# Altium schematic symbol library Library.SchLib: 692 symbols (part 6 of 11)
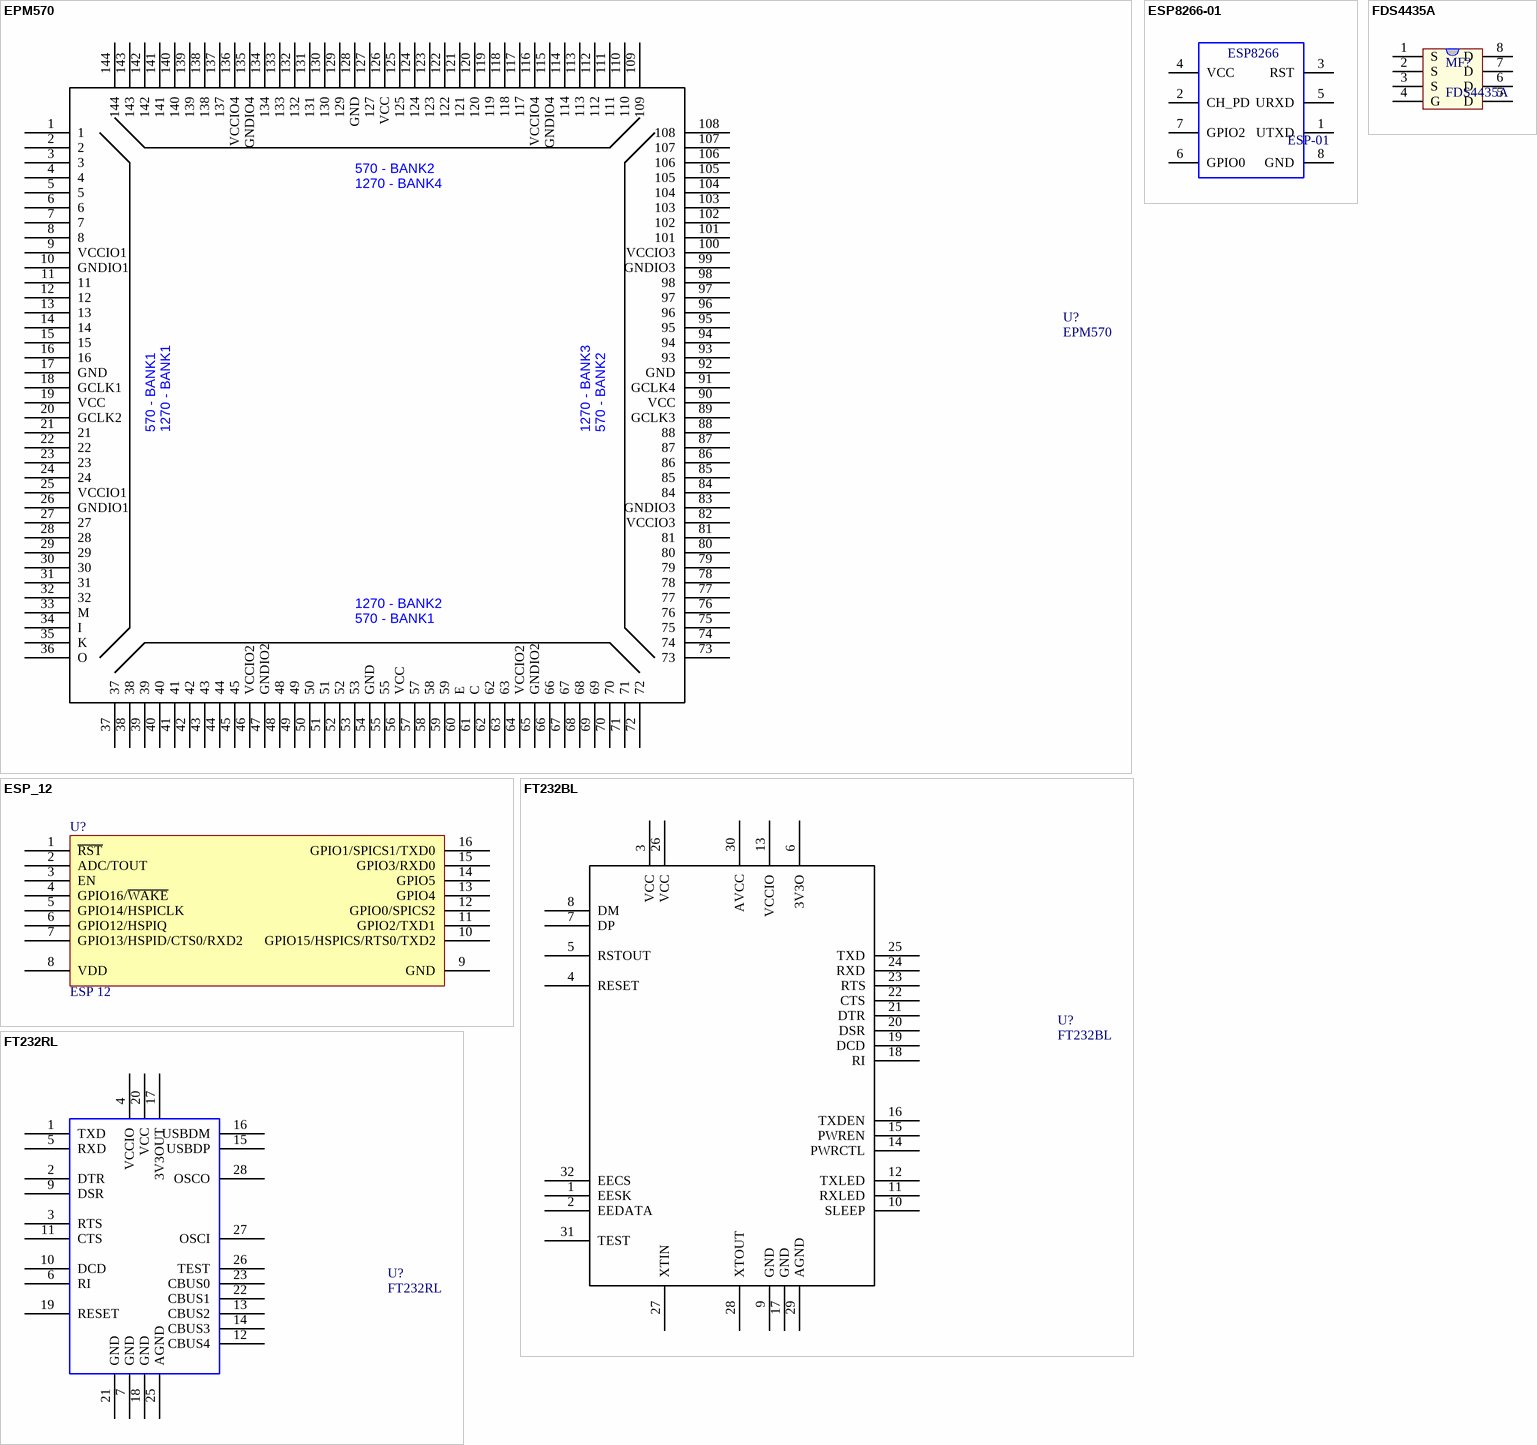
[diagram p51: symbols EPM570 to FT232RL]

## FT232BL
designator U?
USB TO UART INTERFACE; Manufacturer Part Number: FT232BL R; Manufacturer: FTDI, Future Technology Devices International Ltd; Voltage: 4.35 V ~ 5.25 V; FIFO's: 256 Byte; Number of Channels: 8; Supplier 1: Digi-Key; Supplier Part Number 1: 768-1009-1-ND; Supplier: Digi-Key; Features: Serial Interface; Packaging: Cut Tape (CT); Package / Case: 32-LQFP; Supplier Part Number: 768-1009-1-ND; Category: Integrated Circuits (ICs); RoHS: RoHS Compliant
footprint TQFP32 (Thin QFP, 32-Leads, Body 9x9mm, Pitch 0.8mm, IPC Low Density)
pins: 1 EESK, 2 EEDATA, 3 VCC, 4 RESET, 5 RSTOUT, 6 3V3O, 7 DP, 8 DM, 9 GND, 10 SLEEP, 11 RXLED, 12 TXLED, 13 VCCIO, 14 PWRCTL, 15 PWREN, 16 TXDEN, 17 GND, 18 RI, 19 DCD, 20 DSR, 21 DTR, 22 CTS, 23 RTS, 24 RXD, 25 TXD, 26 VCC, 27 XTIN, 28 XTOUT, 29 AGND, 30 AVCC, 31 TEST, 32 EECS

## FT232RL
designator U?
USB TO UART INTERFACE; Manufacturer: FTDI, Future Technology Devices International Ltd; Manufacturer Part Number: FT232RL R; Number of Channels: 8; Voltage: 3.3 V ~ 5.25 V; FIFO's: 256 Byte; Supplier 1: Digi-Key; Supplier Part Number 1: 768-1007-2-ND; RoHS: RoHS Compliant; Features: Serial Interface; Package / Case: 28-SSOP; Supplier: Digi-Key; Packaging: Tape & Reel (TR); Supplier Part Number: 768-1007-2-ND; Category: Integrated Circuits (ICs)
footprint TSSOP28
pins: 1 TXD, 2 DTR, 3 RTS, 4 VCCIO, 5 RXD, 6 RI, 7 GND, 9 DSR, 10 DCD, 11 CTS, 12 CBUS4, 13 CBUS2, 14 CBUS3, 15 USBDP, 16 USBDM, 17 3V3OUT, 18 GND, 19 RESET, 20 VCC, 21 GND, 22 CBUS1, 23 CBUS0, 25 AGND, 26 TEST, 27 OSCI, 28 OSCO

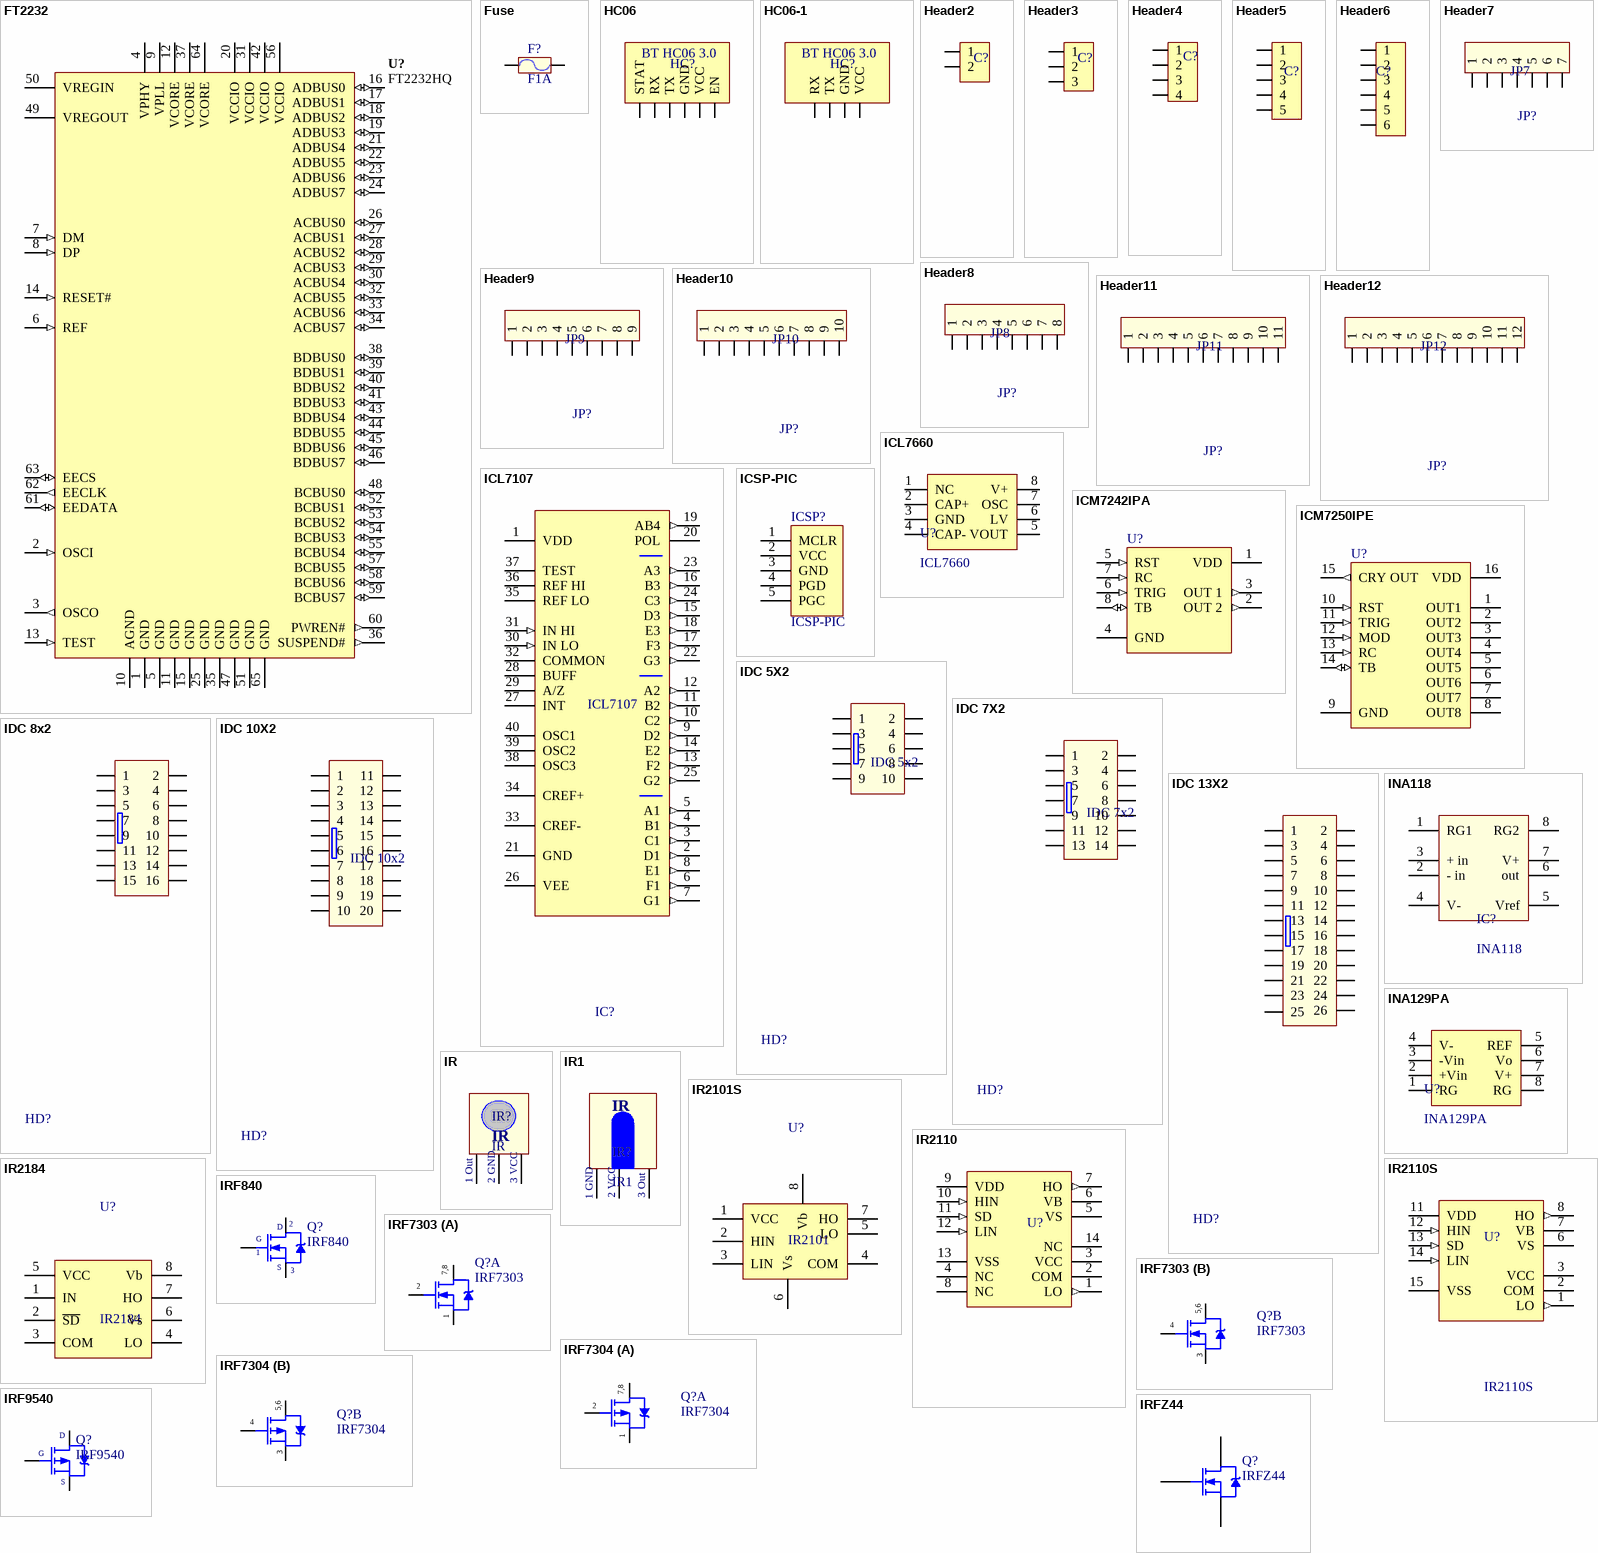
[diagram p28: symbols FT2232 to IRFZ44]

## FT2232
designator U?, comment FT2232HQ
Dual High Speed USB To Multipurpose UART/FIFO IC, QFN-64, Tray; DatasheetVersion: ver 2.10, Nov-2010; ComponentLink1Description: Manufacturer URL; PackageVersion: 2010; ComponentLink1URL: http://www.ftdichip.com/; PackageReference: QFN64_2; PackageDescription: 64-Pin Quad Flat No-Lead, 9 x 9 mm Body, 0.5 mm Pitch, 4.35 x 4.35 mm Exposed Pad; RevisionNote: URLs added.; ComponentLink2URL: http://www.ftdichip.com/Support/Documents/DataSheets/ICs/DS_FT2232H.pdf; ComponentLink2Description: Datasheet
footprint QFN64M (QFN, 64-Leads, Body 9x9mm, Pitch 0.5mm, IPC High Density)
pins: 1 GND (power), 2 OSCI (in), 3 OSCO (out), 4 VPHY (power), 5 GND (power), 6 REF (in), 7 DM (in), 8 DP (in), 9 VPLL (power), 10 AGND (power), 11 GND (power), 12 VCORE (power), 13 TEST (in), 14 RESET# (in), 15 GND (power), 16 ADBUS0 (io), 17 ADBUS1 (io), 18 ADBUS2 (io), 19 ADBUS3 (io), 20 VCCIO (power), 21 ADBUS4 (io), 22 ADBUS5 (io), 23 ADBUS6 (io), 24 ADBUS7 (io), 25 GND (power), 26 ACBUS0 (io), 27 ACBUS1 (io), 28 ACBUS2 (io), 29 ACBUS3 (io), 30 ACBUS4 (io), 31 VCCIO (power), 32 ACBUS5 (io), 33 ACBUS6 (io), 34 ACBUS7 (io), 35 GND (power), 36 SUSPEND# (out), 37 VCORE (power), 38 BDBUS0 (io), 39 BDBUS1 (io), 40 BDBUS2 (io), 41 BDBUS3 (io), 42 VCCIO (power), 43 BDBUS4 (io), 44 BDBUS5 (io), 45 BDBUS6 (io), 46 BDBUS7 (io), 47 GND (power), 48 BCBUS0 (io), 49 VREGOUT (power), 50 VREGIN (power), 51 GND (power), 52 BCBUS1 (io), 53 BCBUS2 (io), 54 BCBUS3 (io), 55 BCBUS4 (io), 56 VCCIO (power), 57 BCBUS5 (io), 58 BCBUS6 (io), 59 BCBUS7 (io), 60 PWREN# (out), 61 EEDATA (io), 62 EECLK (out), 63 EECS (io), 64 VCORE (power), 65 GND (power)

## Fuse
designator F?, comment F1A
Fuse; Designed by: VanDungEvn; Value: Fuse
footprint Fuse4 (FUSEHOLDER BLOCKS - PCB - CLIP COVER - THT - WR-FSH)
footprint Fuse1
footprint FUSE2 (De Fuse)
footprint Fuse5 (PCB - Clip Cover - THR)
footprint Fuse3 (FUSEHOLDER BLOCKS - PCB - CLIP COVER - THT - WR-FSH)
footprint Fuse6 (FUSEHOLDER BLOCKS - PCB - CLIP COVER - THT - WR-FSH)
footprint Fuse7 (FUSEHOLDER BLOCKS - PCB - CLIP COVER - THT - WR-FSH)
footprint Fuse8 (WR-FSH Shocksafe Fuseholder-PCB-Turn and Lock Cover-THT)
footprint Fuse9 (WR-FSH Shocksafe Fuseholder-PCB-Turn and Lock Cover-THT)
pins: 1, 2

## HC06
designator HC?
Manufacturer: W¨¹rth Elektronik eiSos GmbH; partNo: 613004143121; ComponentLink1 Description: Manufacturer; ComponentLink2 Description: Datasheet; NoPins: 04; Created Date: 29 March 2013; ComponentLink1URL: http://www.we-online.com; ComponentLink2URL: http://katalog.we-online.de/em/datasheet/6130xx143121.pdf; Created by: Karrer Zheng
footprint HC06
footprint JP6-C1T (6 row, straight, gold plating)
pins: 1 STAT, 2 RX, 3 TX, 4 GND, 5 VCC, 6 EN
text: BT HC06 3.0

## HC06-1
designator HC?
Manufacturer: W¨¹rth Elektronik eiSos GmbH; partNo: 613004143121; ComponentLink1 Description: Manufacturer; ComponentLink2 Description: Datasheet; NoPins: 04; Created Date: 29 March 2013; ComponentLink1URL: http://www.we-online.com; ComponentLink2URL: http://katalog.we-online.de/em/datasheet/6130xx143121.pdf; Created by: Karrer Zheng
footprint HC06-1
footprint JP4-C1T (4 row, straight, gold plating)
pins: 1 RX, 2 TX, 3 GND, 4 VCC
text: BT HC06 3.0

## Header2
designator C?
Header IDC, 2 x 1 Pin Vertical 2.54mm Pitch (Non-Boxed, Male); Manufacturer: W¨¹rth Elektronik eiSos GmbH; partNo: 613002143121; ComponentLink1 Description: Manufacturer; ComponentLink2 Description: Datasheet; NoPins: 02; Created Date: 29 March 2013; ComponentLink1URL: http://www.we-online.com; ComponentLink2URL: http://katalog.we-online.de/em/datasheet/6130xx143121.pdf; Created by: Karrer Zheng
footprint HDR2 (Connector; Header; 2 Position)
footprint Header2 (CON2)
pins: 1, 2

## Header3
designator C?
Header IDC, 3 x 1 Pin Vertical 2.54mm Pitch (Non-Boxed, Male); Manufacturer: W¨¹rth Elektronik eiSos GmbH; partNo: 613002143121; ComponentLink1 Description: Manufacturer; ComponentLink2 Description: Datasheet; NoPins: 02; Created Date: 29 March 2013; ComponentLink1URL: http://www.we-online.com; ComponentLink2URL: http://katalog.we-online.de/em/datasheet/6130xx143121.pdf; Created by: Karrer Zheng
footprint HDR3 (Connector; Header; 3 Position)
footprint Header3 (CON 3)
pins: 1, 2, 3

## Header4
designator C?
Header IDC, 4 x 1 Pin Vertical 2.54mm Pitch (Non-Boxed, Male); Manufacturer: W¨¹rth Elektronik eiSos GmbH; partNo: 613002143121; ComponentLink1 Description: Manufacturer; ComponentLink2 Description: Datasheet; NoPins: 02; Created Date: 29 March 2013; ComponentLink1URL: http://www.we-online.com; ComponentLink2URL: http://katalog.we-online.de/em/datasheet/6130xx143121.pdf; Created by: Karrer Zheng
footprint HDR4 (Connector; Header; 4 Position)
footprint Header4 (CON4)
pins: 1, 2, 3, 4

## Header5
designator C?
Header IDC, 5 x 1 Pin Vertical 2.54mm Pitch (Non-Boxed, Male); Manufacturer: W¨¹rth Elektronik eiSos GmbH; partNo: 613002143121; ComponentLink1 Description: Manufacturer; ComponentLink2 Description: Datasheet; NoPins: 02; Created Date: 29 March 2013; ComponentLink1URL: http://www.we-online.com; ComponentLink2URL: http://katalog.we-online.de/em/datasheet/6130xx143121.pdf; Created by: Karrer Zheng
footprint HDR5 (Connector; Header; 5 Position)
footprint Header5 (CON5)
pins: 1, 2, 3, 4, 5

## Header6
designator C?
Header IDC, 6 x 1 Pin Vertical 2.54mm Pitch (Non-Boxed, Male); Manufacturer: W¨¹rth Elektronik eiSos GmbH; partNo: 613002143121; ComponentLink1 Description: Manufacturer; ComponentLink2 Description: Datasheet; NoPins: 02; Created Date: 29 March 2013; ComponentLink1URL: http://www.we-online.com; ComponentLink2URL: http://katalog.we-online.de/em/datasheet/6130xx143121.pdf; Created by: Karrer Zheng
footprint HDR6 (Connector; Header; 6 Position)
footprint Header6 (CON6)
pins: 1, 2, 3, 4, 5, 6

## Header7
designator JP?, comment JP7
Connector 7; Value: Connector 7
footprint Header7 (CON7)
pins: 1, 2, 3, 4, 5, 6, 7

## Header8
designator JP?, comment JP8
Connector 8; Value: Connector 8
footprint Header8 (CON8)
pins: 1, 2, 3, 4, 5, 6, 7, 8

## Header9
designator JP?, comment JP9
Connector 9; Value: Connector 9
footprint Header9 (CON9)
pins: 1, 2, 3, 4, 5, 6, 7, 8, 9

## Header10
designator JP?, comment JP10
Connector 10; Value: Connector 10
footprint Header10 (CON10)
pins: 1, 2, 3, 4, 5, 6, 7, 8, 9, 10

## Header11
designator JP?, comment JP11
Connector 11; Value: Connector 11
footprint Header11 (CON11)
pins: 1, 2, 3, 4, 5, 6, 7, 8, 9, 10, 11

## Header12
designator JP?, comment JP12
Connector 12; Value: Connector 12
footprint Header12 (CON12)
pins: 1, 2, 3, 4, 5, 6, 7, 8, 9, 10, 11, 12

## ICL7107
designator IC?
Dipslay voltage 0 - 1999; Value: ICL7107
footprint DIP40/W0.6 (40 PIN, W 600mil, Pin to pin 100mil)
pins: 1 VDD (power), 2 D1 (out), 3 C1 (out), 4 B1 (out), 5 A1 (out), 6 F1 (out), 7 G1 (out), 8 E1 (out), 9 D2 (out), 10 C2 (out), 11 B2 (out), 12 A2 (out), 13 F2 (out), 14 E2 (out), 15 D3 (out), 16 B3 (out), 17 F3 (out), 18 E3 (out), 19 AB4 (out), 20 POL, 21 GND (power), 22 G3 (out), 23 A3 (out), 24 C3 (out), 25 G2 (out), 26 VEE (power), 27 INT, 28 BUFF, 29 A/Z, 30 IN LO (in), 31 IN HI (in), 32 COMMON, 33 CREF-, 34 CREF+, 35 REF LO, 36 REF HI, 37 TEST, 38 OSC3, 39 OSC2, 40 OSC1

## ICL7660
designator U?
CMOS Voltage Converters; Creator: Nguyen Ba Bien
footprint DIP8
footprint SO8 (SOIC, 8-Leads, Body 4.9x3.9mm, Pitch 1.27mm, IPC High Density)
pins: 1 NC, 2 CAP+, 3 GND, 4 CAP-, 5 VOUT, 6 LV, 7 OSC, 8 V+

## ICM7242IPA
designator U?
Fixed and Programmable Timer/ Counter; Published: 16-Jan-2001; LatestRevisionDate: 29-May-2009; LatestRevisionNote: Component Body Added.; PackageVersion: RevB, 21-0043; PackageReference: PA8; Publisher: Altium Limited; PackageDescription: DIP, 8-Pin, Row Spacing 7.62 mm, Pitch 2.54 mm; Code_JEDEC: MS-001-AB; ComponentLink1Description: Manufacturer Link; ComponentLink1URL: http://www.maxim-ic.com/; ComponentLink2Description: Datasheet; ComponentLink2URL: http://pdfserv.maxim-ic.com/en/ds/ICM7240-ICM7260.pdf
footprint DIP8
pins: 1 VDD (power), 2 OUT 2 (out), 3 OUT 1 (out), 4 GND (power), 5 RST (in), 6 TRIG (in), 7 RC (in), 8 TB (io)

## ICM7250IPE
designator U?
Fixed and Programmable Timer/ Counter; Published: 16-Jan-2001; LatestRevisionDate: 29-May-2009; LatestRevisionNote: Component Body Added.; PackageVersion: 1997; PackageReference: PE16A; Publisher: Altium Limited; PackageDescription: DIP, 16-Pin, Row Spacing 7.62 mm, Pitch 2.54 mm; Code_JEDEC: MS-001-BB; ComponentLink1Description: Manufacturer Link; ComponentLink1URL: http://www.maxim-ic.com/; ComponentLink2Description: Datasheet; ComponentLink2URL: http://pdfserv.maxim-ic.com/en/ds/ICM7240-ICM7260.pdf
footprint DIP16
pins: 1 OUT1 (oc), 2 OUT2 (oc), 3 OUT3 (oc), 4 OUT4 (oc), 5 OUT5 (oc), 6 OUT6 (oc), 7 OUT7 (oc), 8 OUT8 (oc), 9 GND (power), 10 RST (in), 11 TRIG (in), 12 MOD (in), 13 RC (in), 14 TB (io), 15 CRY OUT (out), 16 VDD (power)

## ICSP-PIC
designator ICSP?
Header, 5-Pin; LatestRevisionDate: 17-Jul-2002; LatestRevisionNote: Re-released for DXP Platform.; Publisher: Altium Limited
footprint JP5-D1T (5 pins, 1 row, straight, gold plating)
pins: 1 MCLR, 2 VCC, 3 GND, 4 PGD, 5 PGC

## IDC 5X2
designator HD?, comment IDC 5x2
Value: Header 5x2
footprint IDC10-BH
footprint IDC10
footprint IDC10-S
pins: 1, 2, 3, 4, 5, 6, 7, 8, 9, 10

## IDC 7X2
designator HD?, comment IDC 7x2
Value: Header 5x2
footprint IDC14
pins: 1, 2, 3, 4, 5, 6, 7, 8, 9, 10, 11, 12, 13, 14

## IDC 8x2
designator HD?, comment IDC 8X2  (value not drawn)
Value: Header 5x2
footprint IDC16
pins: 1, 2, 3, 4, 5, 6, 7, 8, 9, 10, 11, 12, 13, 14, 15, 16

## IDC 10X2
designator HD?, comment IDC 10x2
Value: Header 5x2
footprint IDC20 (Header 10x2,20 pin, connecter)
footprint IDC20-S (IDC20 EDGE SOLDERED)
footprint IDC20-B
pins: 1, 2, 3, 4, 5, 6, 7, 8, 9, 10, 11, 12, 13, 14, 15, 16, 17, 18, 19, 20

## IDC 13X2
designator HD?
IDC 13x2; Value: Header 5x2
footprint IDC26-B
footprint IDC26-S (IDC26 EDGE SOLDERED)
pins: 1, 2, 3, 4, 5, 6, 7, 8, 9, 10, 11, 12, 13, 14, 15, 16, 17, 18, 19, 20, 21, 22, 23, 24, 25, 26

## INA118
designator IC?
Precision, Low Power  INSTRUMENTATION AMPLIFIER; Designed by: VanDungEvn; Value: INA118
footprint DIP8
footprint SO8
pins: 1 RG1, 2 - in, 3 + in, 4 V-, 5 Vref, 6 out, 7 V+, 8 RG2

## INA129PA
designator U?
footprint DIP8
footprint SO8 (SOIC, 8-Leads, Body 4.9x3.9mm, Pitch 1.27mm, IPC High Density)
pins: 1 RG, 2 +Vin, 3 -Vin, 4 V-, 5 REF, 6 Vo, 7 V+, 8 RG

## IR
designator IR?
Receiver Infraed IC
footprint JP3-C1T (3 row, straight, gold plating)
footprint IR (Receiver Infared IC)
pins: 1 Out, 2 GND, 3 VCC
text: 1 Out; 2 GND; 3 VCC

## IR1
designator IR?
Receiver Infraed IC
footprint IR2 (Receiver Infared IC)
pins: 1 Out, 2 GND, 3 VCC
text: IR; 1 GND; 2 VCC; 3 Out

## IR2101S
designator U?, comment IR2101
Half-Bridge Driver
footprint DIP8
footprint SO8 (SOIC, 8-Leads, Body 4.9x3.9mm, Pitch 1.27mm, IPC High Density)
pins: 1 VCC, 2 HIN, 3 LIN, 4 COM, 5 LO, 6 Vs, 7 HO, 8 Vb

## IR2110
designator U?
High and Low Side Driver; Note: Pins 4, 8 and 14 are not connected; Published: 8-Jun-2000; LatestRevisionDate: 04-Mar-2005; LatestRevisionNote: Stylized 3D Model Added.; DatasheetVersion: PD60147J; PackageReference: PDIP14; Publisher: Altium Limited; PackageDescription: DIP; 14 Leads; Row Spacing 7.62 mm; Pitch 2.54 mm; ComponentLink1Description: Manufacturer Link; ComponentLink1URL: http://www.irf.com/; ComponentLink2Description: Datasheet; ComponentLink2URL: http://www.irf.com/product-info/datasheets/data/ir2110.pdf
footprint DIP14
footprint DIP14_SOCKET
pins: 1 LO (out), 2 COM (power), 3 VCC (power), 4 NC, 5 VS (power), 6 VB (power), 7 HO (out), 8 NC, 9 VDD (power), 10 HIN (in), 11 SD (in), 12 LIN (in), 13 VSS (power), 14 NC

## IR2110S
designator U?
High and Low Side Driver; Note: Pins 4, 8 and 14 are not connected; Published: 8-Jun-2000; LatestRevisionDate: 04-Mar-2005; LatestRevisionNote: Stylized 3D Model Added.; DatasheetVersion: PD60147J; PackageReference: PDIP14; Publisher: Altium Limited; PackageDescription: DIP; 14 Leads; Row Spacing 7.62 mm; Pitch 2.54 mm; ComponentLink1Description: Manufacturer Link; ComponentLink1URL: http://www.irf.com/; ComponentLink2Description: Datasheet; ComponentLink2URL: http://www.irf.com/product-info/datasheets/data/ir2110.pdf
footprint SO16L (SOIC, 16-Leads, Body 10.30x7.50mm, Pitch 1.27mm, IPC Medium Density)
pins: 1 LO (out), 2 COM (power), 3 VCC (power), 6 VS (power), 7 VB (power), 8 HO (out), 11 VDD (power), 12 HIN (in), 13 SD (in), 14 LIN (in), 15 VSS (power)

## IR2184
designator U?
Half-Bridge Driver
footprint DIP8
footprint SO8 (SOIC, 8-Leads, Body 4.9x3.9mm, Pitch 1.27mm, IPC High Density)
pins: 1 IN, 2 ~{SD}, 3 COM, 4 LO, 5 VCC, 6 Vs, 7 HO, 8 Vb

## IRF840
designator Q?
MOSFET N - CHANNEL 500V - 0.75 - 8A - TO-220; Value: IRF840
footprint TO220H1 (TO-220 - 1-2-3)
footprint TO220-123 (TO-220 - 1-2-3)
footprint TO220NH (TO-220 - 1-2-3)
footprint TO220H3 (TO-220 1-2-3)
footprint TO220H2 (TO-220 - 1-2-3)
pins: 1 G, 2 D, 3 S

## IRF7303
designator Q?
HEXFET Power MOSFET; Published: 8-Jun-2000; LatestRevisionDate: 13-Apr-2006; LatestRevisionNote: IPC-7351 Footprint Added.; DatasheetVersion: Aug-1997; PackageVersion: Feb-2001; PackageReference: SO-8; Publisher: Altium Limited; PackageDescription: 8-Pin Plastic Small Outline Integrated Circuit 1.27 mm Pitch; Code_JEDEC: MS-012-AA; Code_IPC: SOIC127P600-8; ComponentLink1Description: Manufacturer Link; ComponentLink1URL: http://www.irf.com/; ComponentLink2Description: Datasheet; ComponentLink2URL: http://www.irf.com/product-info/datasheets/data/irf7303.pdf
footprint SO8
footprint DIP8
part A pins: 1 S, 2 G, 7 D, 8 D
part B pins: 3 S, 4 G, 5 D, 6 D
part A text: 7,8
part B text: 5,6

## IRF7304
designator Q?
HEXFET Power MOSFET; Published: 8-Jun-2000; LatestRevisionDate: 13-Apr-2006; LatestRevisionNote: IPC-7351 Footprint Added.; DatasheetVersion: Aug-1997; PackageVersion: Feb-2001; PackageReference: SO-8; Publisher: Altium Limited; PackageDescription: 8-Pin Plastic Small Outline Integrated Circuit 1.27 mm Pitch; Code_JEDEC: MS-012-AA; Code_IPC: SOIC127P600-8; ComponentLink1Description: Manufacturer Link; ComponentLink1URL: http://www.irf.com/; ComponentLink2Description: Datasheet; ComponentLink2URL: http://www.irf.com/product-info/datasheets/data/irf7304.pdf
footprint SO8
footprint DIP8
part A pins: 1 S, 2 G, 7 D, 8 D
part B pins: 3 S, 4 G, 5 D, 6 D
part A text: 7,8
part B text: 5,6

## IRF9540
designator Q?
HEXFET P-Channel Power MOSFET; Value: IRF840
footprint TO220H1 (TO-220 - 1-2-3)
footprint TO220-123 (TO-220 - 1-2-3)
footprint TO220NH (TO-220 - 1-2-3)
footprint TO220H3 (TO-220 1-2-3)
footprint TO220H2 (TO-220 - 1-2-3)
pins: 1 G, 2 D, 3 S

## IRFZ44
designator Q?
Value: IRF840
footprint TO220H1 (TO-220 - 1-2-3)
footprint TO220-123 (TO-220 - 1-2-3)
footprint TO220NH (TO-220 - 1-2-3)
footprint TO220H2 (TO-220 - 1-2-3)
footprint TO220H3 (TO-220 1-2-3)
pins: 1 G, 2 D, 3 S

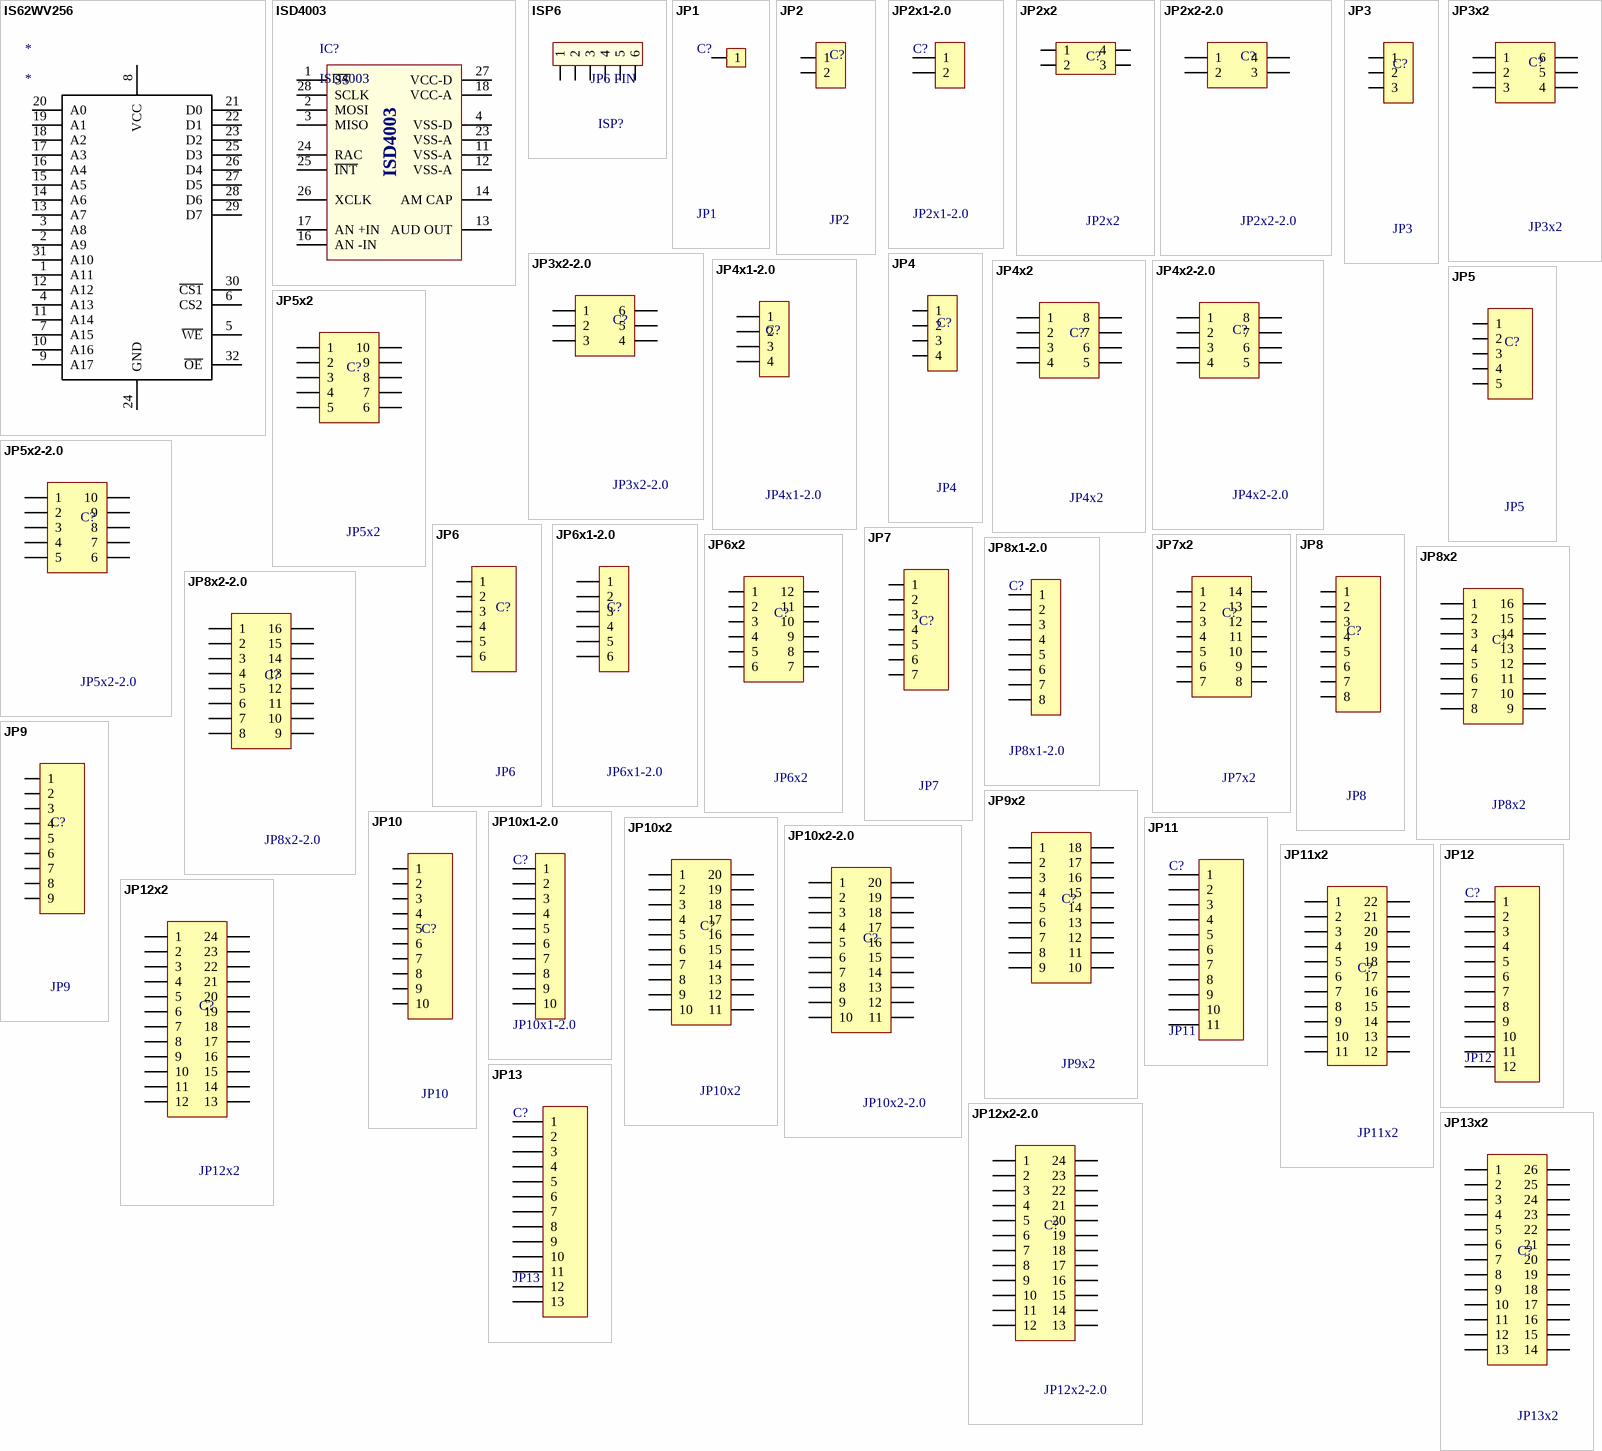
[diagram p29: symbols IS62WV256 to JP13x2]

## IS62WV256
designator *
footprint TSOP32 (TSSOP, 32-Leads, Body 8.1x18.5mm (max), Pitch 0.50mm, IPC Medium Density)
pins: 1 A11, 2 A9, 3 A8, 4 A13, 5 ~{WE}, 6 CS2, 7 A15, 8 VCC, 9 A17, 10 A16, 11 A14, 12 A12, 13 A7, 14 A6, 15 A5, 16 A4, 17 A3, 18 A2, 19 A1, 20 A0, 21 D0, 22 D1, 23 D2, 24 GND, 25 D3, 26 D4, 27 D5, 28 D6, 29 D7, 30 ~{CS1}, 31 A10, 32 ~{OE}

## ISD4003
designator IC?
Single-chip voice Record/Playback solution
footprint DIP28/W0.6 (DIP28/W.600, Pin to pin 100mil)
pins: 1 ~{SS}, 2 MOSI, 3 MISO, 4 VSS-D, 11 VSS-A, 12 VSS-A, 13 AUD OUT, 14 AM CAP, 16 AN -IN, 17 AN +IN, 18 VCC-A, 23 VSS-A, 24 RAC, 25 ~{INT}, 26 XCLK, 27 VCC-D, 28 SCLK

## ISP6
designator ISP?, comment JP6 PIN
ISP6 PIN; Value: JP7
footprint JP6-D1T (6 pins, 1 row, straight, gold plating)
pins: 1, 2, 3, 4, 5, 6

## JP1
designator C?
WR-PHD 2.54 mm Angled Socket Header; Manufacturer: W¨¹rth Elektronik eiSos GmbH; partNo: 613002143121; ComponentLink1 Description: Manufacturer; ComponentLink2 Description: Datasheet; NoPins: 02; Created Date: 29 March 2013; ComponentLink1URL: http://www.we-online.com; ComponentLink2URL: http://katalog.we-online.de/em/datasheet/6130xx143121.pdf; Created by: Karrer Zheng
footprint JP1-D1T (1pins, 1 row, straight, gold plating)
pins: 1

## JP2
designator C?
WR-PHD 2.54 mm Angled Socket Header; Manufacturer: W¨¹rth Elektronik eiSos GmbH; partNo: 613002143121; ComponentLink1 Description: Manufacturer; ComponentLink2 Description: Datasheet; NoPins: 02; Created Date: 29 March 2013; ComponentLink1URL: http://www.we-online.com; ComponentLink2URL: http://katalog.we-online.de/em/datasheet/6130xx143121.pdf; Created by: Karrer Zheng
footprint JP2-C1T (2 row, straight, gold plating)
footprint JP2-CLOSED
footprint JP2-C1C (02p 1 row Right angle)
footprint JP2-D1C (2 pins, 1 row, right angled, gold plating)
footprint JP2-D1T (2 pins, 1 row, straight, gold plating)
pins: 1, 2

## JP2x1-2.0
designator C?
WR-PHD 2.00 mm Socket Header; Manufacturer: W¨¹rth Elektronik eiSos GmbH; partNo: 62000211821; ComponentLink1 Description: Manufacturer; ComponentLink2 Description: Datasheet; NoPins: 02; Created Date: 2 April 2013; ComponentLink1URL: http://www.we-online.com; ComponentLink2URL: http://katalog.we-online.de/em/datasheet/6200xx11821.pdf; Created by: Karrer Zheng
footprint J2-C1T (2p, 1 row, straight, gold plating)
footprint J2-D1T (2 pins, 1 row, straight, gold plating)
pins: 1, 2

## JP2x2
designator C?
WR-PHD 2.54 mm Dual Socket Header; Manufacturer: W¨¹rth Elektronik eiSos GmbH; partNo: 61300421821; ComponentLink1 Description: Manufacturer; ComponentLink2 Description: Datasheet; NoPins: 04; Created Date: 29 March 2013; ComponentLink1URL: http://www.we-online.com; ComponentLink2URL: http://katalog.we-online.de/em/datasheet/6130xx21821.pdf; Created by: Karrer Zheng
footprint JP2-C2C (04p 2 rows Right angle)
footprint JP2-D2T (4 pins, dual pin, straight, gold plating)
footprint JP2-D2C (4 pins, dual row, right angled, gold plating)
footprint JP2-C2T (4 pins, dual row, straight, gold plating)
pins: 1, 2, 3, 4

## JP2x2-2.0
designator C?
WR-PHD 2.00 mm Dual Pin Header; Manufacturer: W¨¹rth Elektronik eiSos GmbH; partNo: 62000421121; ComponentLink1 Description: Manufacturer; ComponentLink2 Description: Datasheet; NoPins: 04; Created Date: 2 April 2013; ComponentLink1URL: http://www.we-online.com; ComponentLink2URL: http://katalog.we-online.de/em/datasheet/6200xx21121.pdf; Created by: Karrer Zheng
footprint J2-C2T (4 pins, dual row, straight, gold plating)
footprint J2-D2T (4 pins, dual row, straight, gold plating)
pins: 1, 2, 3, 4

## JP3
designator C?
WR-PHD 2.54 mm Angled Socket Header; Manufacturer: W¨¹rth Elektronik eiSos GmbH; partNo: 613003143121; ComponentLink1 Description: Manufacturer; ComponentLink2 Description: Datasheet; NoPins: 03; Created Date: 29 March 2013; ComponentLink1URL: http://www.we-online.com; ComponentLink2URL: http://katalog.we-online.de/em/datasheet/6130xx143121.pdf; Created by: Karrer Zheng
footprint JP3-C1T (3 row, straight, gold plating)
footprint JP3-D1C (3 pins, 1 row, right angled, gold plating)
footprint JP3-C1C (03p 1 row Right angle)
footprint JP3-D1T (3 pins, 1 row, straight, gold plating)
footprint JP3-CLOSED
pins: 1, 2, 3

## JP3x2
designator C?
WR-PHD 2.54 mm Dual Socket Header; Manufacturer: W¨¹rth Elektronik eiSos GmbH; partNo: 61300621821; ComponentLink1 Description: Manufacturer; ComponentLink2 Description: Datasheet; NoPins: 06; Created Date: 29 March 2013; ComponentLink1URL: http://www.we-online.com; ComponentLink2URL: http://katalog.we-online.de/em/datasheet/6130xx21821.pdf; Created by: Karrer Zheng
footprint JP3-D2T (6 pins, dual pin, straight, gold plating)
footprint JP3-C2T (6 pins, dual row, straight, gold plating)
footprint JP3-C2C (06p 2 rows Right angle)
footprint JP3-D2C (06 pins, dual row, right angled, gold plating)
pins: 1, 2, 3, 4, 5, 6

## JP3x2-2.0
designator C?
WR-PHD 2.00 mm Dual Pin Header; Manufacturer: W¨¹rth Elektronik eiSos GmbH; partNo: 62000621121; ComponentLink1 Description: Manufacturer; ComponentLink2 Description: Datasheet; NoPins: 06; Created Date: 2 April 2013; ComponentLink1URL: http://www.we-online.com; ComponentLink2URL: http://katalog.we-online.de/em/datasheet/6200xx21121.pdf; Created by: Karrer Zheng
footprint J3-D2T (6 pins, dual row, straight, gold plating)
footprint J3-C2T (6 pins, dual row, straight, gold plating)
pins: 1, 2, 3, 4, 5, 6

## JP4
designator C?
WR-PHD 2.54 mm Angled Socket Header; Manufacturer: W¨¹rth Elektronik eiSos GmbH; partNo: 613004143121; ComponentLink1 Description: Manufacturer; ComponentLink2 Description: Datasheet; NoPins: 04; Created Date: 29 March 2013; ComponentLink1URL: http://www.we-online.com; ComponentLink2URL: http://katalog.we-online.de/em/datasheet/6130xx143121.pdf; Created by: Karrer Zheng
footprint JP4-C1T (4 row, straight, gold plating)
footprint JP4-D1C (4 pins, 1 row, right angled, gold plating)
footprint JP4-C1C (04p 1 row Right angle)
footprint JP4-D1C (4 pins, 1 row, right angled, gold plating)
pins: 1, 2, 3, 4

## JP4x1-2.0
designator C?
WR-PHD 2.00 mm Socket Header; Manufacturer: W¨¹rth Elektronik eiSos GmbH; partNo: 62000411821; ComponentLink1 Description: Manufacturer; ComponentLink2 Description: Datasheet; NoPins: 04; Created Date: 2 April 2013; ComponentLink1URL: http://www.we-online.com; ComponentLink2URL: http://katalog.we-online.de/em/datasheet/6200xx11821.pdf; Created by: Karrer Zheng
footprint J4-C1T (4p, 1 row, straight, gold plating)
footprint J4-D1T (4 pins, 1 row, straight, gold plating)
pins: 1, 2, 3, 4

## JP4x2
designator C?
WR-PHD 2.54 mm Dual Socket Header; Manufacturer: W¨¹rth Elektronik eiSos GmbH; partNo: 61300821821; ComponentLink1 Description: Manufacturer; ComponentLink2 Description: Datasheet; NoPins: 08; Created Date: 29 March 2013; ComponentLink1URL: http://www.we-online.com; ComponentLink2URL: http://katalog.we-online.de/em/datasheet/6130xx21821.pdf; Created by: Karrer Zheng
footprint JP4-D2T (8 pins, dual pin, straight, gold plating)
footprint JP4-C2T (8 pins, dual row, straight, gold plating)
footprint JP4-C2C (08p 2 rows Right angle)
footprint JP4-D2C (08 pins, dual row, right angled, gold plating)
pins: 1, 2, 3, 4, 5, 6, 7, 8

## JP4x2-2.0
designator C?
WR-PHD 2.00 mm Dual Pin Header; Manufacturer: W¨¹rth Elektronik eiSos GmbH; partNo: 62000821121; ComponentLink1 Description: Manufacturer; ComponentLink2 Description: Datasheet; NoPins: 08; Created Date: 2 April 2013; ComponentLink1URL: http://www.we-online.com; ComponentLink2URL: http://katalog.we-online.de/em/datasheet/6200xx21121.pdf; Created by: Karrer Zheng
footprint J4-C2T (8 pins, dual row, straight, gold plating)
footprint J4-D2T (8 pins, dual row, straight, gold plating)
pins: 1, 2, 3, 4, 5, 6, 7, 8

## JP5
designator C?
WR-PHD 2.54 mm Angled Socket Header; Manufacturer: W¨¹rth Elektronik eiSos GmbH; partNo: 613005143121; ComponentLink1 Description: Manufacturer; ComponentLink2 Description: Datasheet; NoPins: 05; Created Date: 29 March 2013; ComponentLink1URL: http://www.we-online.com; ComponentLink2URL: http://katalog.we-online.de/em/datasheet/6130xx143121.pdf; Created by: Karrer Zheng
footprint JP5-C1T (5 row, straight, gold plating)
footprint JP5-D1C (5 pins, 1 row, right angled, gold plating)
footprint JP5-C1C (05p 1 row Right angle)
footprint JP5-D1T (5 pins, 1 row, straight, gold plating)
pins: 1, 2, 3, 4, 5

## JP5x2
designator C?
WR-PHD 2.54 mm Dual Socket Header; Manufacturer: W¨¹rth Elektronik eiSos GmbH; partNo: 61301021821; ComponentLink1 Description: Manufacturer; ComponentLink2 Description: Datasheet; NoPins: 10; Created Date: 29 March 2013; ComponentLink1URL: http://www.we-online.com; ComponentLink2URL: http://katalog.we-online.de/em/datasheet/6130xx21821.pdf; Created by: Karrer Zheng
footprint JP5-D2T (10 pins, dual pin, straight, gold plating)
footprint JP5-C2T (10 pins, dual row, straight, gold plating)
footprint JP5-C2C (10p 2 rows Right angle)
footprint JP5-D2C (10 pins, dual row, right angled, gold plating)
pins: 1, 2, 3, 4, 5, 6, 7, 8, 9, 10

## JP5x2-2.0
designator C?
WR-PHD 2.00 mm Dual Pin Header; Manufacturer: W¨¹rth Elektronik eiSos GmbH; partNo: 62001021121; ComponentLink1 Description: Manufacturer; ComponentLink2 Description: Datasheet; NoPins: 10; Created Date: 2 April 2013; ComponentLink1URL: http://www.we-online.com; ComponentLink2URL: http://katalog.we-online.de/em/datasheet/6200xx21121.pdf; Created by: Karrer Zheng
footprint J5-C2T (10 pins, dual row, straight, gold plating)
footprint J5-D2T (10 pins, dual row, straight, gold plating)
pins: 1, 2, 3, 4, 5, 6, 7, 8, 9, 10

## JP6
designator C?
WR-PHD 2.54 mm Angled Socket Header; Manufacturer: W¨¹rth Elektronik eiSos GmbH; partNo: 613006143121; ComponentLink1 Description: Manufacturer; ComponentLink2 Description: Datasheet; NoPins: 06; Created Date: 29 March 2013; ComponentLink1URL: http://www.we-online.com; ComponentLink2URL: http://katalog.we-online.de/em/datasheet/6130xx143121.pdf; Created by: Karrer Zheng
footprint JP6-C1T (6 row, straight, gold plating)
footprint JP6-D1C (6 pins, 1 row, right angled, gold plating)
footprint JP6-C1C (06p 1 row Right angle)
footprint JP6-D1T (6 pins, 1 row, straight, gold plating)
pins: 1, 2, 3, 4, 5, 6

## JP6x1-2.0
designator C?
WR-PHD 2.00 mm Socket Header; Manufacturer: W¨¹rth Elektronik eiSos GmbH; partNo: 62000611821; ComponentLink1 Description: Manufacturer; ComponentLink2 Description: Datasheet; NoPins: 06; Created Date: 2 April 2013; ComponentLink1URL: http://www.we-online.com; ComponentLink2URL: http://katalog.we-online.de/em/datasheet/6200xx11821.pdf; Created by: Karrer Zheng
footprint J6-C1T (6p, 1 row, straight, gold plating)
footprint J6-D1T (6 pins, 1 row, straight, gold plating)
pins: 1, 2, 3, 4, 5, 6

## JP6x2
designator C?
WR-PHD 2.54 mm Dual Socket Header; Manufacturer: W¨¹rth Elektronik eiSos GmbH; partNo: 61301221821; ComponentLink1 Description: Manufacturer; ComponentLink2 Description: Datasheet; NoPins: 12; Created Date: 29 March 2013; ComponentLink1URL: http://www.we-online.com; ComponentLink2URL: http://katalog.we-online.de/em/datasheet/6130xx21821.pdf; Created by: Karrer Zheng
footprint JP6-D2T (12 pins, dual pin, straight, gold plating)
footprint JP6-D2C (12 pins, dual row, right angled, gold plating)
footprint JP6-C2C (12p 2 rows Right angle)
footprint JP6-C2T (12 pins, dual row, straight, gold plating)
pins: 1, 2, 3, 4, 5, 6, 7, 8, 9, 10, 11, 12

## JP7
designator C?
WR-PHD 2.54 mm Angled Socket Header; Manufacturer: W¨¹rth Elektronik eiSos GmbH; partNo: 613007143121; ComponentLink1 Description: Manufacturer; ComponentLink2 Description: Datasheet; NoPins: 07; Created Date: 29 March 2013; ComponentLink1URL: http://www.we-online.com; ComponentLink2URL: http://katalog.we-online.de/em/datasheet/6130xx143121.pdf; Created by: Karrer Zheng
footprint JP7-C1C (07p 1 row Right angle)
footprint JP7-C1T (7 row, straight, gold plating)
footprint JP7-D1T (7 pins, 1 row, straight, gold plating)
footprint JP7-D1C (7 pins, 1 row, right angled, gold plating)
pins: 1, 2, 3, 4, 5, 6, 7

## JP7x2
designator C?
WR-PHD 2.54 mm Dual Socket Header; Manufacturer: W¨¹rth Elektronik eiSos GmbH; partNo: 61301421821; ComponentLink1 Description: Manufacturer; ComponentLink2 Description: Datasheet; NoPins: 14; Created Date: 29 March 2013; ComponentLink1URL: http://www.we-online.com; ComponentLink2URL: http://katalog.we-online.de/em/datasheet/6130xx21821.pdf; Created by: Karrer Zheng
footprint JP7-C2T (14 pins, dual row, straight, gold plating)
footprint JP7-D2C (14 pins, dual row, right angled, gold plating)
footprint JP7-D2T (14 pins, dual pin, straight, gold plating)
footprint JP7-C2C (14p 2 rows Right angle)
pins: 1, 2, 3, 4, 5, 6, 7, 8, 9, 10, 11, 12, 13, 14

## JP8
designator C?
WR-PHD 2.54 mm Angled Socket Header; Manufacturer: W¨¹rth Elektronik eiSos GmbH; partNo: 613008143121; ComponentLink1 Description: Manufacturer; ComponentLink2 Description: Datasheet; NoPins: 08; Created Date: 29 March 2013; ComponentLink1URL: http://www.we-online.com; ComponentLink2URL: http://katalog.we-online.de/em/datasheet/6130xx143121.pdf; Created by: Karrer Zheng
footprint JP8-C1C (08p 1 row Right angle)
footprint JP8-C1T (8 row, straight, gold plating)
footprint JP8-D1C (8 pins, 1 row, right angled, gold plating)
footprint JP8-D1T (8 pins, 1 row, straight, gold plating)
pins: 1, 2, 3, 4, 5, 6, 7, 8

## JP8x1-2.0
designator C?
WR-PHD 2.00 mm Socket Header; Manufacturer: W¨¹rth Elektronik eiSos GmbH; partNo: 62000811821; ComponentLink1 Description: Manufacturer; ComponentLink2 Description: Datasheet; NoPins: 08; Created Date: 2 April 2013; ComponentLink1URL: http://www.we-online.com; ComponentLink2URL: http://katalog.we-online.de/em/datasheet/6200xx11821.pdf; Created by: Karrer Zheng
footprint J8-C1T (8p, 1 row, straight, gold plating)
footprint J8-D1T (8 pins, 1 row, straight, gold plating)
pins: 1, 2, 3, 4, 5, 6, 7, 8

## JP8x2
designator C?
WR-PHD 2.54 mm Dual Socket Header; Manufacturer: W¨¹rth Elektronik eiSos GmbH; partNo: 61301621821; ComponentLink1 Description: Manufacturer; ComponentLink2 Description: Datasheet; NoPins: 16; Created Date: 29 March 2013; ComponentLink1URL: http://www.we-online.com; ComponentLink2URL: http://katalog.we-online.de/em/datasheet/6130xx21821.pdf; Created by: Karrer Zheng
footprint JP8-C2T (16 pins, dual row, straight, gold plating)
footprint JP8-D2T (16 pins, dual pin, straight, gold plating)
footprint JP8-D2C (16 pins, dual row, right angled, gold plating)
footprint JP8-C2C (16p 2 rows Right angle)
pins: 1, 2, 3, 4, 5, 6, 7, 8, 9, 10, 11, 12, 13, 14, 15, 16

## JP8x2-2.0
designator C?
WR-PHD 2.00 mm Dual Pin Header; Manufacturer: W¨¹rth Elektronik eiSos GmbH; partNo: 62001621121; ComponentLink1 Description: Manufacturer; ComponentLink2 Description: Datasheet; NoPins: 16; Created Date: 2 April 2013; ComponentLink1URL: http://www.we-online.com; ComponentLink2URL: http://katalog.we-online.de/em/datasheet/6200xx21121.pdf; Created by: Karrer Zheng
footprint J8-C2T (16 pins, dual row, straight, gold plating)
footprint J8-D2T (16 pins, dual row, straight, gold plating)
pins: 1, 2, 3, 4, 5, 6, 7, 8, 9, 10, 11, 12, 13, 14, 15, 16

## JP9
designator C?
WR-PHD 2.54 mm Angled Socket Header; Manufacturer: W¨¹rth Elektronik eiSos GmbH; partNo: 613009143121; ComponentLink1 Description: Manufacturer; ComponentLink2 Description: Datasheet; NoPins: 09; Created Date: 29 March 2013; ComponentLink1URL: http://www.we-online.com; ComponentLink2URL: http://katalog.we-online.de/em/datasheet/6130xx143121.pdf; Created by: Karrer Zheng
footprint JP9-C1T (9 row, straight, gold plating)
footprint JP9-C1C (09p 1 row Right angle)
footprint JP9-D1T (9 pins, 1 row, straight, gold plating)
footprint JP9-D1C (9 pins, 1 row, right angled, gold plating)
pins: 1, 2, 3, 4, 5, 6, 7, 8, 9

## JP9x2
designator C?
WR-PHD 2.54 mm Dual Socket Header; Manufacturer: W¨¹rth Elektronik eiSos GmbH; partNo: 61301821821; ComponentLink1 Description: Manufacturer; ComponentLink2 Description: Datasheet; NoPins: 18; Created Date: 29 March 2013; ComponentLink1URL: http://www.we-online.com; ComponentLink2URL: http://katalog.we-online.de/em/datasheet/6130xx21821.pdf; Created by: Karrer Zheng
footprint JP9-C2T (18 pins, dual row, straight, gold plating)
footprint JP9-D2T (18 pins, dual pin, straight, gold plating)
footprint JP9-D2C (18 pins, dual row, right angled, gold plating)
footprint JP9-C2C (18p 2 rows Right angle)
pins: 1, 2, 3, 4, 5, 6, 7, 8, 9, 10, 11, 12, 13, 14, 15, 16, 17, 18

## JP10
designator C?
WR-PHD 2.54 mm Angled Socket Header; Manufacturer: W¨¹rth Elektronik eiSos GmbH; partNo: 613010143121; ComponentLink1 Description: Manufacturer; ComponentLink2 Description: Datasheet; NoPins: 10; Created Date: 29 March 2013; ComponentLink1URL: http://www.we-online.com; ComponentLink2URL: http://katalog.we-online.de/em/datasheet/6130xx143121.pdf; Created by: Karrer Zheng
footprint JP10-C1T (10 row, straight, gold plating)
footprint JP10-C1C (10p 1 row Right angle)
footprint JP10-D1T (10 pins, 1 row, straight, gold plating)
footprint JP10-D1C (10 pins, 1 row, right angled, gold plating)
pins: 1, 2, 3, 4, 5, 6, 7, 8, 9, 10

## JP10x1-2.0
designator C?
WR-PHD 2.00 mm Socket Header; Manufacturer: W¨¹rth Elektronik eiSos GmbH; partNo: 62001011821; ComponentLink1 Description: Manufacturer; ComponentLink2 Description: Datasheet; NoPins: 10; Created Date: 2 April 2013; ComponentLink1URL: http://www.we-online.com; ComponentLink2URL: http://katalog.we-online.de/em/datasheet/6200xx11821.pdf; Created by: Karrer Zheng
footprint J10-C1T (10p, 1 row, straight, gold plating)
footprint J10-D1T (10 pins, 1 row, straight, gold plating)
pins: 1, 2, 3, 4, 5, 6, 7, 8, 9, 10

## JP10x2
designator C?
WR-PHD 2.54 mm Dual Socket Header; Manufacturer: W¨¹rth Elektronik eiSos GmbH; partNo: 61302021821; ComponentLink1 Description: Manufacturer; ComponentLink2 Description: Datasheet; NoPins: 20; Created Date: 29 March 2013; ComponentLink1URL: http://www.we-online.com; ComponentLink2URL: http://katalog.we-online.de/em/datasheet/6130xx21821.pdf; Created by: Karrer Zheng
footprint JP10-C2T (20 pins, dual row, straight, gold plating)
footprint JP10-C2C (20p 2 rows Right angle)
footprint JP10-D2T (20 pins, dual pin, straight, gold plating)
footprint JP10-D2C (20 pins, dual row, right angled, gold plating)
pins: 1, 2, 3, 4, 5, 6, 7, 8, 9, 10, 11, 12, 13, 14, 15, 16, 17, 18, 19, 20

## JP10x2-2.0
designator C?
WR-PHD 2.00 mm Dual Pin Header; Manufacturer: W¨¹rth Elektronik eiSos GmbH; partNo: 62002021121; ComponentLink1 Description: Manufacturer; ComponentLink2 Description: Datasheet; NoPins: 20; Created Date: 2 April 2013; ComponentLink1URL: http://www.we-online.com; ComponentLink2URL: http://katalog.we-online.de/em/datasheet/6200xx21121.pdf; Created by: Karrer Zheng
footprint J10-C2T (20 pins, dual row, straight, gold plating)
footprint J10-D2T (20 pins, dual row, straight, gold plating)
pins: 1, 2, 3, 4, 5, 6, 7, 8, 9, 10, 11, 12, 13, 14, 15, 16, 17, 18, 19, 20

## JP11
designator C?
WR-PHD 2.54 mm Angled Socket Header; Manufacturer: W¨¹rth Elektronik eiSos GmbH; partNo: 613011143121; ComponentLink1 Description: Manufacturer; ComponentLink2 Description: Datasheet; NoPins: 11; Created Date: 29 March 2013; ComponentLink1URL: http://www.we-online.com; ComponentLink2URL: http://katalog.we-online.de/em/datasheet/6130xx143121.pdf; Created by: Karrer Zheng
footprint JP11-C1T (11 row, straight, gold plating)
footprint JP11-C1C (11p 1 row Right angle)
pins: 1, 2, 3, 4, 5, 6, 7, 8, 9, 10, 11

## JP11x2
designator C?
WR-PHD 2.54 mm Dual Socket Header; Manufacturer: W¨¹rth Elektronik eiSos GmbH; partNo: 61302221821; ComponentLink1 Description: Manufacturer; ComponentLink2 Description: Datasheet; NoPins: 22; Created Date: 29 March 2013; ComponentLink1URL: http://www.we-online.com; ComponentLink2URL: http://katalog.we-online.de/em/datasheet/6130xx21821.pdf; Created by: Karrer Zheng
footprint JP11-C2C (22p 2 rows Right angle)
footprint JP11-D2T (22 pins, dual pin, straight, gold plating)
footprint JP11-C2T (22 pins, dual row, straight, gold plating)
footprint JP11-D2C (22 pins, dual row, right angled, gold plating)
pins: 1, 2, 3, 4, 5, 6, 7, 8, 9, 10, 11, 12, 13, 14, 15, 16, 17, 18, 19, 20, 21, 22

## JP12
designator C?
WR-PHD 2.54 mm Angled Socket Header; Manufacturer: W¨¹rth Elektronik eiSos GmbH; partNo: 613012143121; ComponentLink1 Description: Manufacturer; ComponentLink2 Description: Datasheet; NoPins: 12; Created Date: 29 March 2013; ComponentLink1URL: http://www.we-online.com; ComponentLink2URL: http://katalog.we-online.de/em/datasheet/6130xx143121.pdf; Created by: Karrer Zheng
footprint JP12-D1T (12 pins, 1 row, straight, gold plating)
footprint JP12-D1C (12 pins, 1 row, right angled, gold plating)
footprint JP12-C1C (12p 1 row Right angle)
footprint JP12-C1T (12 row, straight, gold plating)
pins: 1, 2, 3, 4, 5, 6, 7, 8, 9, 10, 11, 12

## JP12x2
designator C?
WR-PHD 2.54 mm Dual Socket Header; Manufacturer: W¨¹rth Elektronik eiSos GmbH; partNo: 61302421821; ComponentLink1 Description: Manufacturer; ComponentLink2 Description: Datasheet; NoPins: 24; Created Date: 29 March 2013; ComponentLink1URL: http://www.we-online.com; ComponentLink2URL: http://katalog.we-online.de/em/datasheet/6130xx21821.pdf; Created by: Karrer Zheng
footprint JP12-C2T (24 pins, dual row, straight, gold plating)
footprint JP12-C2C (24p 2 rows Right angle)
footprint JP12-D2T (24 pins, dual pin, straight, gold plating)
footprint JP12-D2C (24 pins, dual row, right angled, gold plating)
pins: 1, 2, 3, 4, 5, 6, 7, 8, 9, 10, 11, 12, 13, 14, 15, 16, 17, 18, 19, 20, 21, 22, 23, 24

## JP12x2-2.0
designator C?
WR-PHD 2.00 mm Dual Pin Header; Manufacturer: W¨¹rth Elektronik eiSos GmbH; partNo: 62002421121; ComponentLink1 Description: Manufacturer; ComponentLink2 Description: Datasheet; NoPins: 24; Created Date: 2 April 2013; ComponentLink1URL: http://www.we-online.com; ComponentLink2URL: http://katalog.we-online.de/em/datasheet/6200xx21121.pdf; Created by: Karrer Zheng
footprint J12-C2T (24 pins, dual row, straight, gold plating)
footprint J12-D2T (24 pins, dual row, straight, gold plating)
pins: 1, 2, 3, 4, 5, 6, 7, 8, 9, 10, 11, 12, 13, 14, 15, 16, 17, 18, 19, 20, 21, 22, 23, 24

## JP13
designator C?
WR-PHD 2.54 mm Angled Socket Header; Manufacturer: W¨¹rth Elektronik eiSos GmbH; partNo: 613013143121; ComponentLink1 Description: Manufacturer; ComponentLink2 Description: Datasheet; NoPins: 13; Created Date: 29 March 2013; ComponentLink1URL: http://www.we-online.com; ComponentLink2URL: http://katalog.we-online.de/em/datasheet/6130xx143121.pdf; Created by: Karrer Zheng
footprint JP13-C1T (13 row, straight, gold plating)
footprint JP13-D1T (13 pins, 1 row, straight, gold plating)
footprint JP13-C1C (13p 1 row Right angle)
pins: 1, 2, 3, 4, 5, 6, 7, 8, 9, 10, 11, 12, 13

## JP13x2
designator C?
WR-PHD 2.54 mm Dual Socket Header; Manufacturer: W¨¹rth Elektronik eiSos GmbH; partNo: 61302621821; ComponentLink1 Description: Manufacturer; ComponentLink2 Description: Datasheet; NoPins: 26; Created Date: 29 March 2013; ComponentLink1URL: http://www.we-online.com; ComponentLink2URL: http://katalog.we-online.de/em/datasheet/6130xx21821.pdf; Created by: Karrer Zheng
footprint JP13-C2T (26 pins, dual row, straight, gold plating)
footprint JP13-C2C (26p 2 rows Right angle)
footprint JP13-D2T (26 pins, dual pin, straight, gold plating)
footprint JP13-D2C (26 pins, dual row, right angled, gold plating)
pins: 1, 2, 3, 4, 5, 6, 7, 8, 9, 10, 11, 12, 13, 14, 15, 16, 17, 18, 19, 20, 21, 22, 23, 24, 25, 26

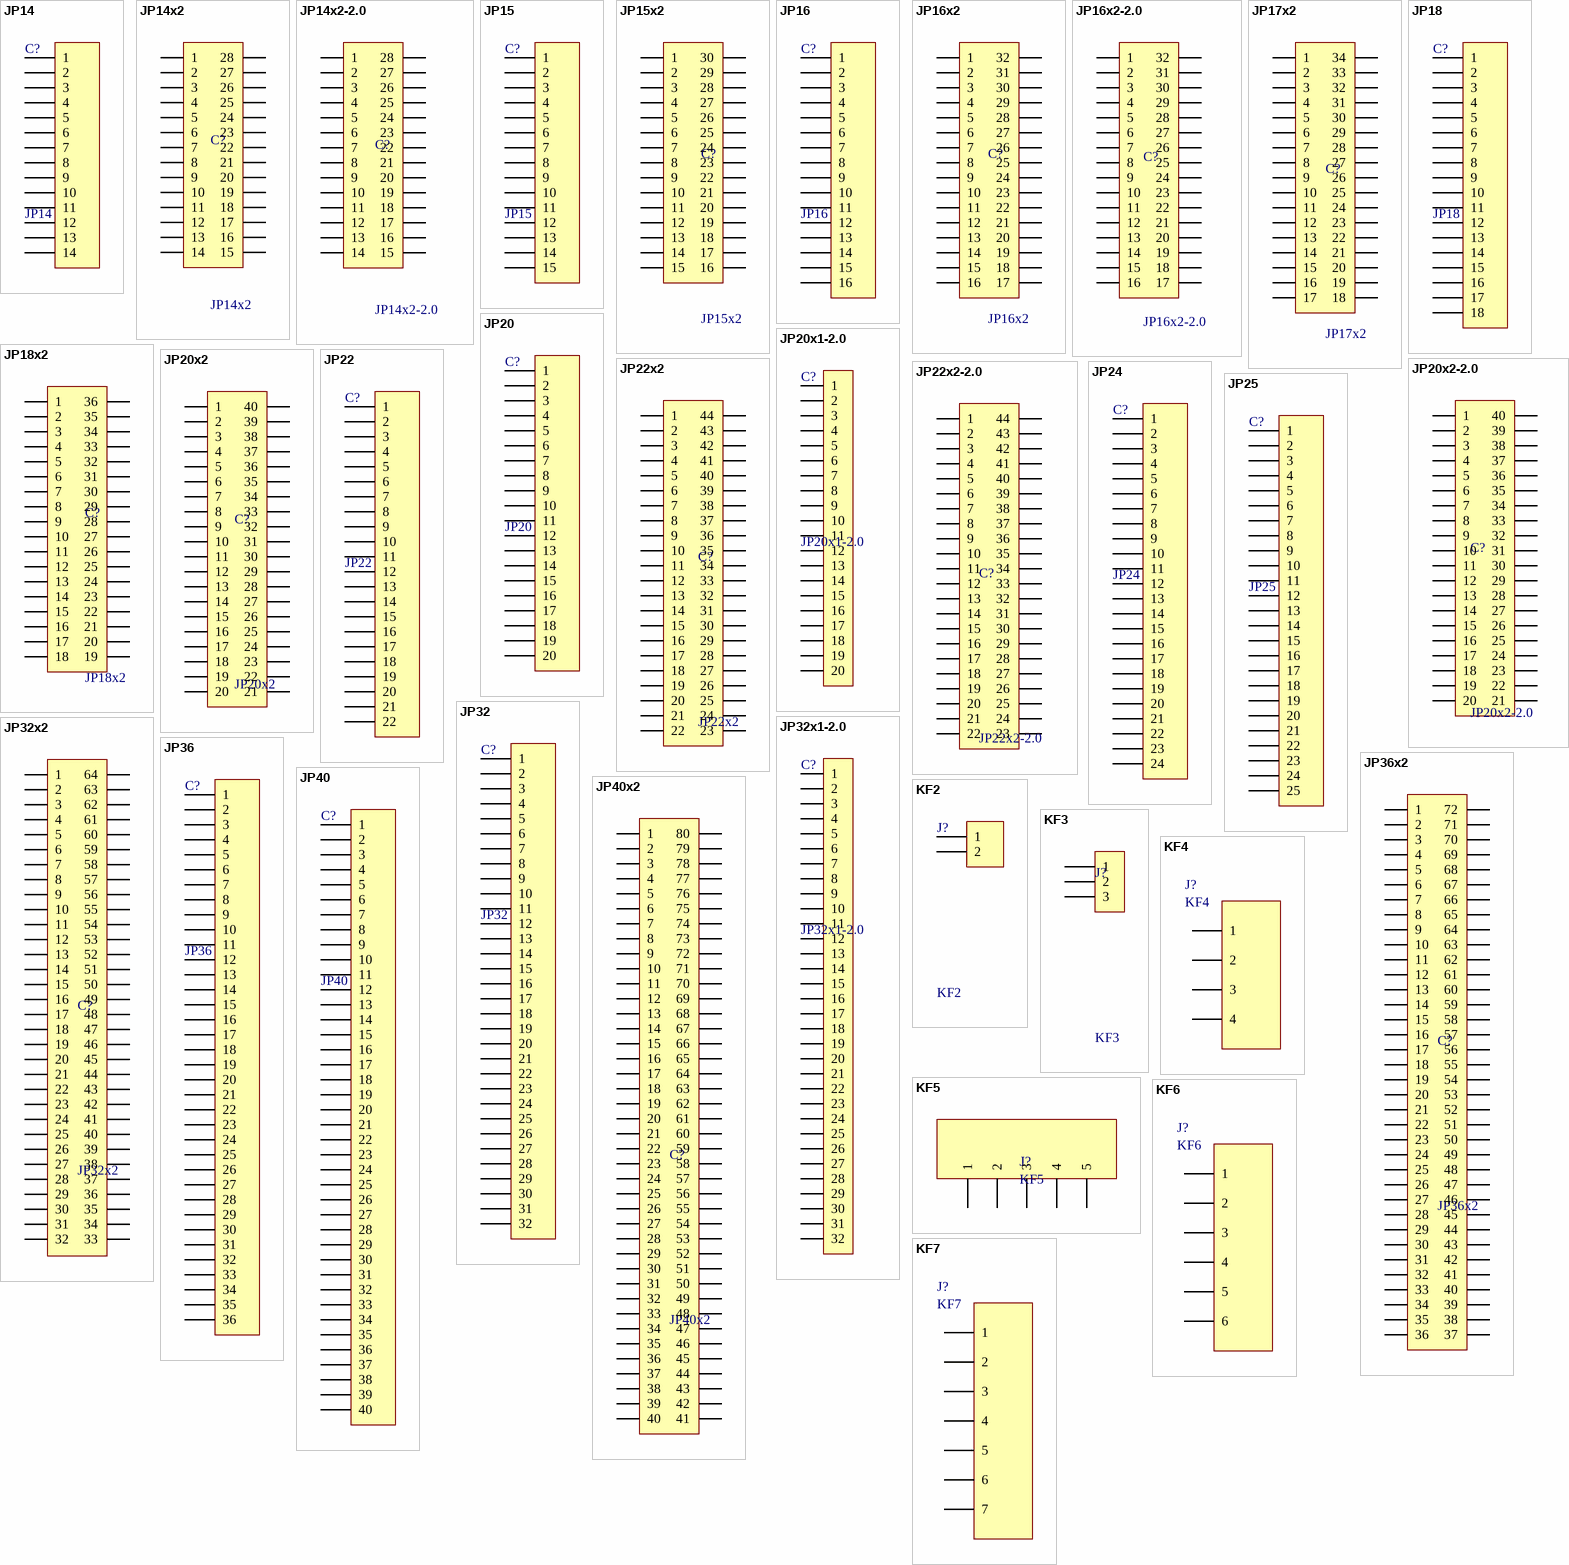
[diagram p30: symbols JP14 to KF7]

## JP14
designator C?
WR-PHD 2.54 mm Angled Socket Header; Manufacturer: W¨¹rth Elektronik eiSos GmbH; partNo: 613014143121; ComponentLink1 Description: Manufacturer; ComponentLink2 Description: Datasheet; NoPins: 14; Created Date: 29 March 2013; ComponentLink1URL: http://www.we-online.com; ComponentLink2URL: http://katalog.we-online.de/em/datasheet/6130xx143121.pdf; Created by: Karrer Zheng
footprint JP14-D1T (14 pins, 1 row, straight, gold plating)
footprint JP14-D1C (14 pins, 1 row, right angled, gold plating)
footprint JP14-C1C (14p 1 row Right angle)
footprint JP14-C1T (14 row, straight, gold plating)
pins: 1, 2, 3, 4, 5, 6, 7, 8, 9, 10, 11, 12, 13, 14

## JP14x2
designator C?
WR-PHD 2.54 mm Dual Socket Header; Manufacturer: W¨¹rth Elektronik eiSos GmbH; partNo: 61302821821; ComponentLink1 Description: Manufacturer; ComponentLink2 Description: Datasheet; NoPins: 28; Created Date: 29 March 2013; ComponentLink1URL: http://www.we-online.com; ComponentLink2URL: http://katalog.we-online.de/em/datasheet/6130xx21821.pdf; Created by: Karrer Zheng
footprint JP14-D2T (28 pins, dual pin, straight, gold plating)
footprint JP14-C2C (28p 2 rows Right angle)
footprint JP14-C2T (28 pins, dual row, straight, gold plating)
pins: 1, 2, 3, 4, 5, 6, 7, 8, 9, 10, 11, 12, 13, 14, 15, 16, 17, 18, 19, 20, 21, 22, 23, 24, 25, 26, 27, 28

## JP14x2-2.0
designator C?
WR-PHD 2.00 mm Dual Pin Header; Manufacturer: W¨¹rth Elektronik eiSos GmbH; partNo: 62002821121; ComponentLink1 Description: Manufacturer; ComponentLink2 Description: Datasheet; NoPins: 28; Created Date: 2 April 2013; ComponentLink1URL: http://www.we-online.com; ComponentLink2URL: http://katalog.we-online.de/em/datasheet/6200xx21121.pdf; Created by: Karrer Zheng
footprint J14-C2T (28 pins, dual row, straight, gold plating)
footprint J14-D2T (28 pins, dual row, straight, gold plating)
pins: 1, 2, 3, 4, 5, 6, 7, 8, 9, 10, 11, 12, 13, 14, 15, 16, 17, 18, 19, 20, 21, 22, 23, 24, 25, 26, 27, 28

## JP15
designator C?
WR-PHD 2.54 mm Angled Socket Header; Manufacturer: W¨¹rth Elektronik eiSos GmbH; partNo: 613015143121; ComponentLink1 Description: Manufacturer; ComponentLink2 Description: Datasheet; NoPins: 15; Created Date: 29 March 2013; ComponentLink1URL: http://www.we-online.com; ComponentLink2URL: http://katalog.we-online.de/em/datasheet/6130xx143121.pdf; Created by: Karrer Zheng
footprint JP15-C1T (15 row, straight, gold plating)
footprint JP15-D1T (15  pins, 1 row, straight, gold plating)
footprint JP15-C1C (15p 1 row Right angle)
pins: 1, 2, 3, 4, 5, 6, 7, 8, 9, 10, 11, 12, 13, 14, 15

## JP15x2
designator C?
WR-PHD 2.54 mm Dual Socket Header; Manufacturer: W¨¹rth Elektronik eiSos GmbH; partNo: 61303021821; ComponentLink1 Description: Manufacturer; ComponentLink2 Description: Datasheet; NoPins: 30; Created Date: 29 March 2013; ComponentLink1URL: http://www.we-online.com; ComponentLink2URL: http://katalog.we-online.de/em/datasheet/6130xx21821.pdf; Created by: Karrer Zheng
footprint JP15-D2T (30 pins, dual pin, straight, gold plating)
footprint JP15-C2C (30p 2 rows Right angle)
footprint JP15-C2T (30 pins, dual row, straight, gold plating)
pins: 1, 2, 3, 4, 5, 6, 7, 8, 9, 10, 11, 12, 13, 14, 15, 16, 17, 18, 19, 20, 21, 22, 23, 24, 25, 26, 27, 28, 29, 30

## JP16
designator C?
WR-PHD 2.54 mm Angled Socket Header; Manufacturer: W¨¹rth Elektronik eiSos GmbH; partNo: 613016143121; ComponentLink1 Description: Manufacturer; ComponentLink2 Description: Datasheet; NoPins: 16; Created Date: 29 March 2013; ComponentLink1URL: http://www.we-online.com; ComponentLink2URL: http://katalog.we-online.de/em/datasheet/6130xx143121.pdf; Created by: Karrer Zheng
footprint JP16-D1C (16 pins, 1 row, right angled, gold plating)
footprint JP16-D1T (16  pins, 1 row, straight, gold plating)
footprint JP16-C1C (16p 1 row Right angle)
footprint JP16-C1T (16 row, straight, gold plating)
pins: 1, 2, 3, 4, 5, 6, 7, 8, 9, 10, 11, 12, 13, 14, 15, 16

## JP16x2
designator C?
WR-PHD 2.54 mm Dual Socket Header; Manufacturer: W¨¹rth Elektronik eiSos GmbH; partNo: 61303221821; ComponentLink1 Description: Manufacturer; ComponentLink2 Description: Datasheet; NoPins: 32; Created Date: 29 March 2013; ComponentLink1URL: http://www.we-online.com; ComponentLink2URL: http://katalog.we-online.de/em/datasheet/6130xx21821.pdf; Created by: Karrer Zheng
footprint JP16-D2C (32 pins, dual row, right angled, gold plating)
footprint JP16-D2T (32 pins, dual pin, straight, gold plating)
footprint JP16-C2T (32 pins, dual row, straight, gold plating)
footprint JP16-C2C (32p 2 rows Right angle)
pins: 1, 2, 3, 4, 5, 6, 7, 8, 9, 10, 11, 12, 13, 14, 15, 16, 17, 18, 19, 20, 21, 22, 23, 24, 25, 26, 27, 28, 29, 30, 31, 32

## JP16x2-2.0
designator C?
WR-PHD 2.00 mm Dual Pin Header; Manufacturer: W¨¹rth Elektronik eiSos GmbH; partNo: 62003221121; ComponentLink1 Description: Manufacturer; ComponentLink2 Description: Datasheet; NoPins: 32; Created Date: 2 April 2013; ComponentLink1URL: http://www.we-online.com; ComponentLink2URL: http://katalog.we-online.de/em/datasheet/6200xx21121.pdf; Created by: Karrer Zheng
footprint J16-C2T (32 pins, dual row, straight, gold plating)
footprint J16-D2T (32 pins, dual row, straight, gold plating)
pins: 1, 2, 3, 4, 5, 6, 7, 8, 9, 10, 11, 12, 13, 14, 15, 16, 17, 18, 19, 20, 21, 22, 23, 24, 25, 26, 27, 28, 29, 30, 31, 32

## JP17x2
designator C?
WR-PHD 2.54 mm Dual Socket Header; Manufacturer: W¨¹rth Elektronik eiSos GmbH; partNo: 61303421821; ComponentLink1 Description: Manufacturer; ComponentLink2 Description: Datasheet; NoPins: 34; Created Date: 29 March 2013; ComponentLink1URL: http://www.we-online.com; ComponentLink2URL: http://katalog.we-online.de/em/datasheet/6130xx21821.pdf; Created by: Karrer Zheng
footprint JP17-C2T (34 pins, dual row, straight, gold plating)
footprint JP17-C2C (34p 2 rows Right angle)
footprint JP17-D2T (34 pins, dual pin, straight, gold plating)
footprint JP17-D2C (34 pins, dual row, right angled, gold plating)
pins: 1, 2, 3, 4, 5, 6, 7, 8, 9, 10, 11, 12, 13, 14, 15, 16, 17, 18, 19, 20, 21, 22, 23, 24, 25, 26, 27, 28, 29, 30, 31, 32, 33, 34

## JP18
designator C?
WR-PHD 2.54 mm Angled Socket Header; Manufacturer: W¨¹rth Elektronik eiSos GmbH; partNo: 613018143121; ComponentLink1 Description: Manufacturer; ComponentLink2 Description: Datasheet; NoPins: 18; Created Date: 29 March 2013; ComponentLink1URL: http://www.we-online.com; ComponentLink2URL: http://katalog.we-online.de/em/datasheet/6130xx143121.pdf; Created by: Karrer Zheng
footprint JP18-C1T (18 row, straight, gold plating)
footprint JP18-D1C (18 pins, 1 row, right angled, gold plating)
footprint JP18-C1C (18p 1 row Right angle)
footprint JP18-D1T (18 pins, 1 row, straight, gold plating)
pins: 1, 2, 3, 4, 5, 6, 7, 8, 9, 10, 11, 12, 13, 14, 15, 16, 17, 18

## JP18x2
designator C?
WR-PHD 2.54 mm Dual Socket Header; Manufacturer: W¨¹rth Elektronik eiSos GmbH; partNo: 61303621821; ComponentLink1 Description: Manufacturer; ComponentLink2 Description: Datasheet; NoPins: 36; Created Date: 29 March 2013; ComponentLink1URL: http://www.we-online.com; ComponentLink2URL: http://katalog.we-online.de/em/datasheet/6130xx21821.pdf; Created by: Karrer Zheng
footprint JP18-C2T (36 pins, dual row, straight, gold plating)
footprint JP18-C2C (36p 2 rows Right angle)
footprint JP18-D2C (36 pins, dual row, right angled, gold plating)
footprint JP18-D2T (36 pins, dual pin, straight, gold plating)
pins: 1, 2, 3, 4, 5, 6, 7, 8, 9, 10, 11, 12, 13, 14, 15, 16, 17, 18, 19, 20, 21, 22, 23, 24, 25, 26, 27, 28, 29, 30, 31, 32, 33, 34, 35, 36

## JP20
designator C?
WR-PHD 2.54 mm Angled Socket Header; Manufacturer: W¨¹rth Elektronik eiSos GmbH; partNo: 613020143121; ComponentLink1 Description: Manufacturer; ComponentLink2 Description: Datasheet; NoPins: 20; Created Date: 29 March 2013; ComponentLink1URL: http://www.we-online.com; ComponentLink2URL: http://katalog.we-online.de/em/datasheet/6130xx143121.pdf; Created by: Karrer Zheng
footprint JP20-C1T (20 row, straight, gold plating)
footprint JP20-C1C (20p 1 row Right angle)
footprint JP20-D1T (20 pins, 1 row, straight, gold plating)
pins: 1, 2, 3, 4, 5, 6, 7, 8, 9, 10, 11, 12, 13, 14, 15, 16, 17, 18, 19, 20

## JP20x1-2.0
designator C?
WR-PHD 2.00 mm Socket Header; Manufacturer: W¨¹rth Elektronik eiSos GmbH; partNo: 62002011821; ComponentLink1 Description: Manufacturer; ComponentLink2 Description: Datasheet; NoPins: 20; Created Date: 2 April 2013; ComponentLink1URL: http://www.we-online.com; ComponentLink2URL: http://katalog.we-online.de/em/datasheet/6200xx11821.pdf; Created by: Karrer Zheng
footprint J20-C1T (20p, 1 row, straight, gold plating)
footprint J20-D1T (20 pins, 1 row, straight, gold plating)
pins: 1, 2, 3, 4, 5, 6, 7, 8, 9, 10, 11, 12, 13, 14, 15, 16, 17, 18, 19, 20

## JP20x2
designator C?
WR-PHD 2.54 mm Dual Socket Header; Manufacturer: W¨¹rth Elektronik eiSos GmbH; partNo: 61304021821; ComponentLink1 Description: Manufacturer; ComponentLink2 Description: Datasheet; NoPins: 40; Created Date: 29 March 2013; ComponentLink1URL: http://www.we-online.com; ComponentLink2URL: http://katalog.we-online.de/em/datasheet/6130xx21821.pdf; Created by: Karrer Zheng
footprint JP20-C2T (40 pins, dual row, straight, gold plating)
footprint JP20-C2C (40p 2 rows Right angle)
footprint JP20-D2T (40 pins, dual pin, straight, gold plating)
footprint JP20-D2C (40 pins, dual row, right angled, gold plating)
pins: 1, 2, 3, 4, 5, 6, 7, 8, 9, 10, 11, 12, 13, 14, 15, 16, 17, 18, 19, 20, 21, 22, 23, 24, 25, 26, 27, 28, 29, 30, 31, 32, 33, 34, 35, 36, 37, 38, 39, 40